# Altium schematic symbol library CAT25512VI.SchLib: 1 symbol
Pins are listed as number, name and electrical type; pins without a type are passive.

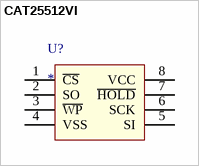
[diagram p0: symbol CAT25512VI]

## CAT25512VI
designator U?
pins: 1 ~{CS}, 2 SO, 3 ~{WP}, 4 VSS, 5 SI, 6 SCK, 7 ~{HOLD}, 8 VCC
1 alternate drawing of the same symbol